# Altium schematic symbol library AP63200.SchLib: 1 symbol
Pins are listed as number, name and electrical type; pins without a type are passive.

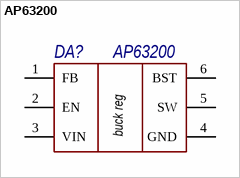
[diagram p0: symbol AP63200]

## AP63200
designator DA?
pins: 1 FB, 2 EN, 3 VIN, 4 GND, 5 SW, 6 BST
text: buck reg